# EAGLE library part ACT4060ASH (library JKW_CHIP)
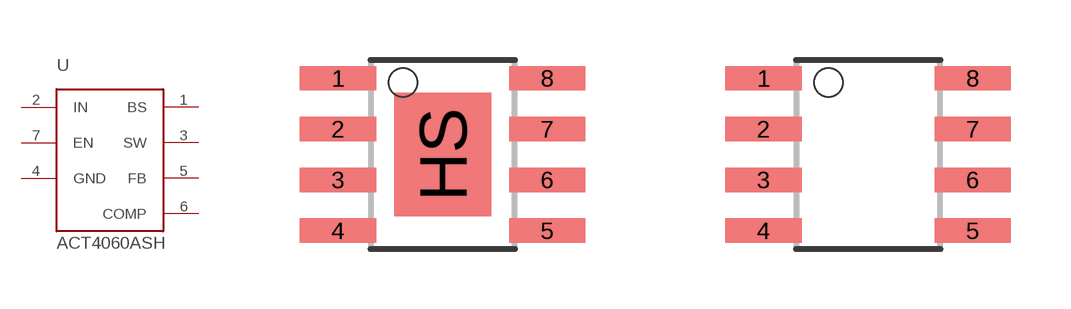
[diagram p16: symbol with the pads of PSOP-8; footprints PSOP-8, SOP-8]

Designator prefix -

## ACT4060ASHPOWER  [PSOP-8]
1  BS
2  IN
3  SW
4  GND
5  FB
6  COMP
7  EN

## ACT4060ASHDEFAULT  [SOP-8]
Pads as for PSOP-8

## Footprint PSOP-8 (pad centres in mm)
Modified SOIC-8, with heat sink pad underneath chip, connected to V-
smd 1.905 x 0.61: 1 -2.616,1.905; 2 -2.616,0.635; 3 -2.616,-0.635; 4 -2.616,-1.905; 5 2.616,-1.905; 6 2.616,-0.635; 7 2.616,0.635; 8 2.616,1.905
smd 2.413 x 3.099: HS 0,0

## Footprint SOP-8 (pad centres in mm)
smd 1.905 x 0.61: 1 -2.616,1.905; 2 -2.616,0.635; 3 -2.616,-0.635; 4 -2.616,-1.905; 5 2.616,-1.905; 6 2.616,-0.635; 7 2.616,0.635; 8 2.616,1.905